# Altium schematic symbol library Corner.SchLib: 3 symbols
Pins are listed as number, name and electrical type; pins without a type are passive.

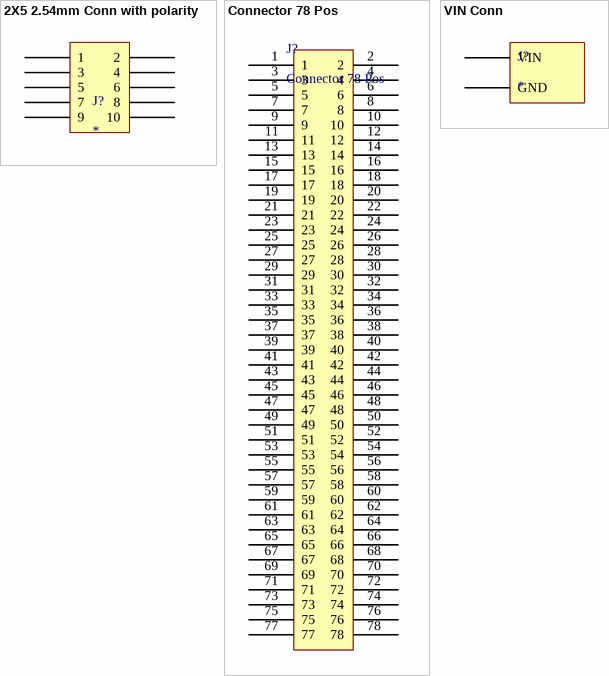
[diagram p0: symbols 2X5 2.54mm Conn with polarity to VIN Conn]

## 2X5 2.54mm Conn with polarity
designator J?
footprint 2X5 with polarity
pins: 1, 2, 3, 4, 5, 6, 7, 8, 9, 10

## Connector 78 Pos
designator J?
footprint 2.54mm 56 POS SMD
pins: 1, 2, 3, 4, 5, 6, 7, 8, 9, 10, 11, 12, 13, 14, 15, 16, 17, 18, 19, 20, 21, 22, 23, 24, 25, 26, 27, 28, 29, 30, 31, 32, 33, 34, 35, 36, 37, 38, 39, 40, 41, 42, 43, 44, 45, 46, 47, 48, 49, 50, 51, 52, 53, 54, 55, 56, 57, 58, 59, 60, 61, 62, 63, 64, 65, 66, 67, 68, 69, 70, 71, 72, 73, 74, 75, 76, 77, 78

## VIN Conn
designator J?
footprint VIN_Conn
pins: G GND (power), VIN